# Altium integrated library Analog Devices Data Converters Analog-to-Digital Converters.IntLib: 2404 symbols (part 39 of 346)
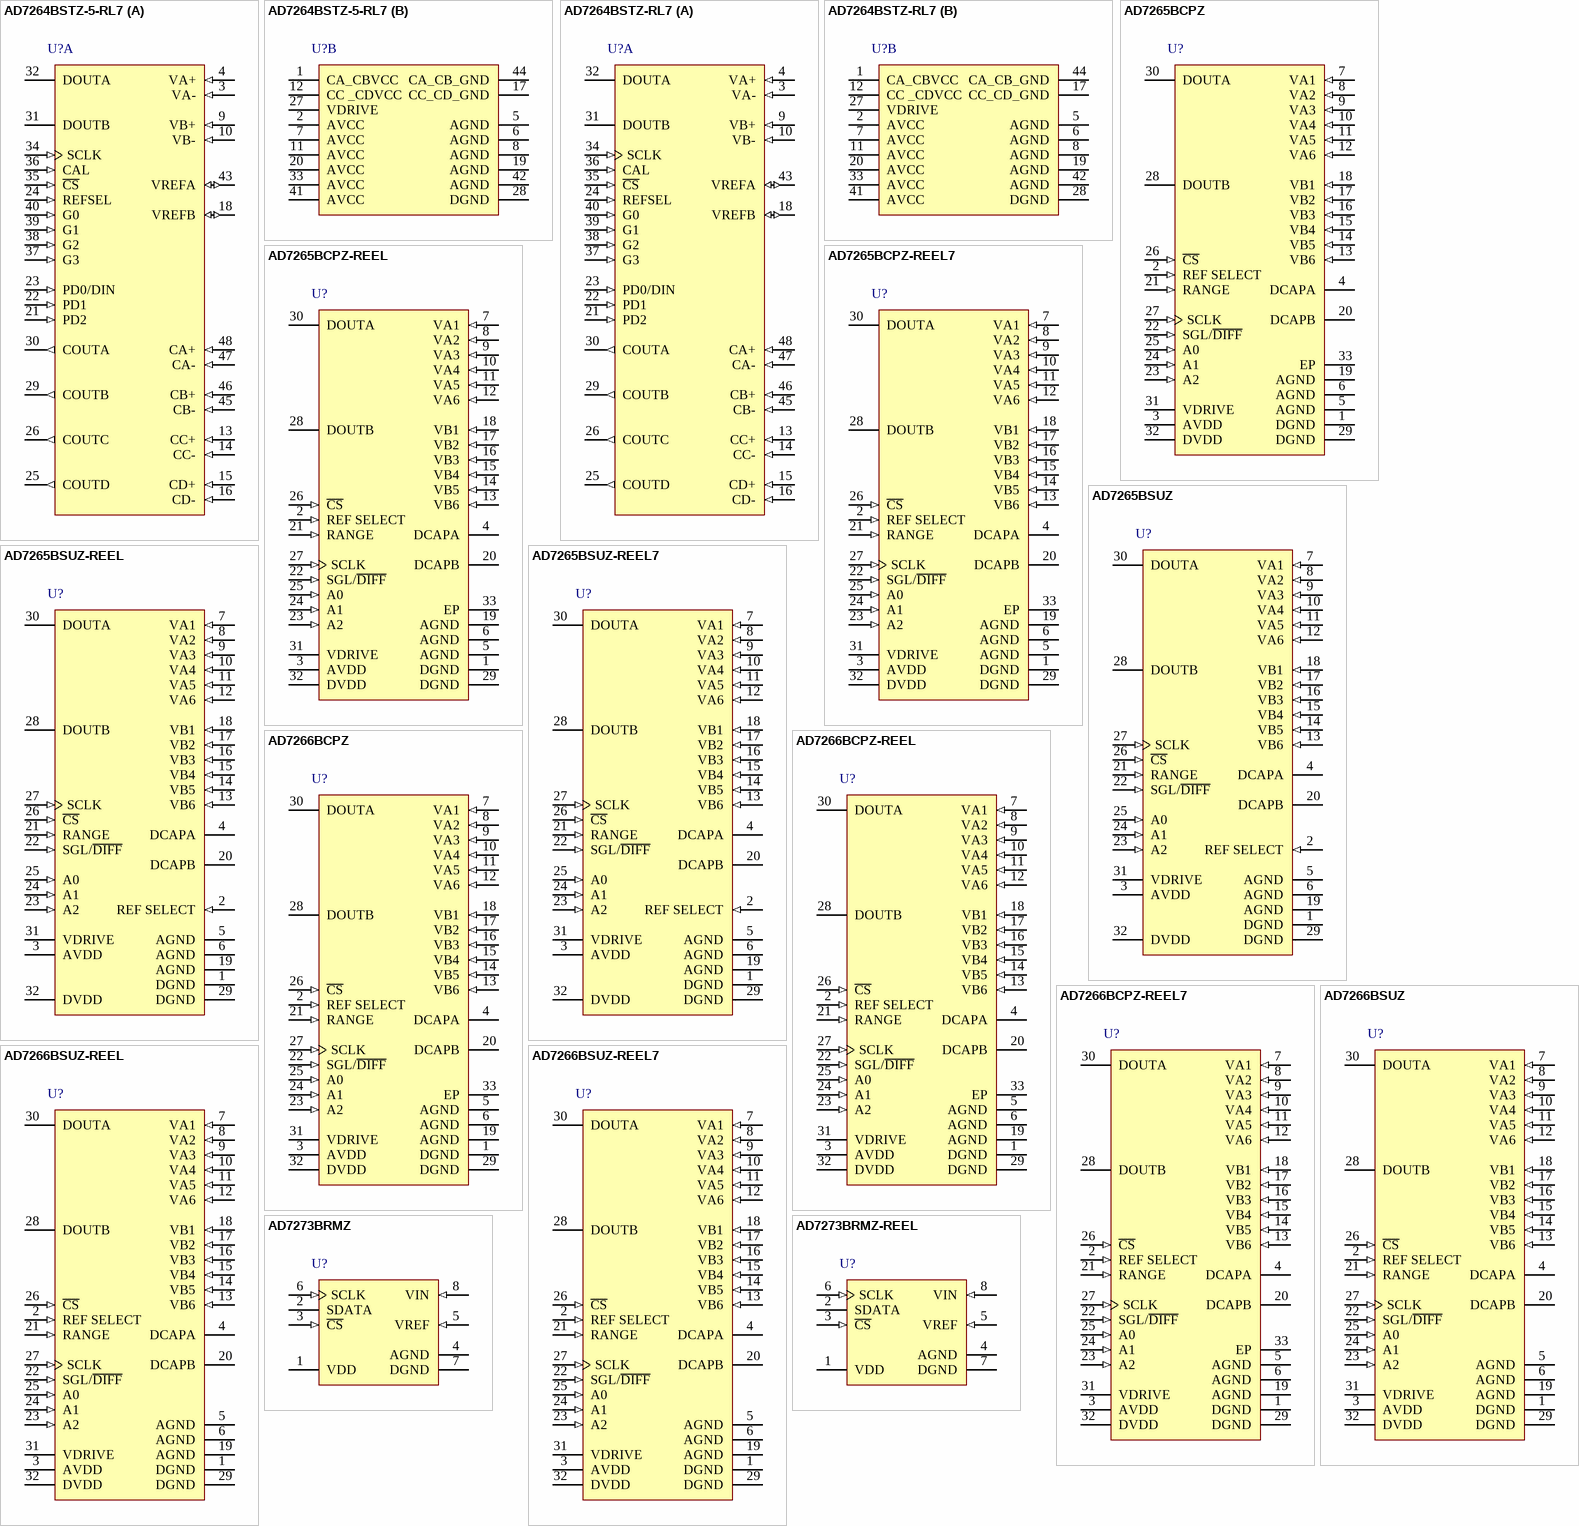
[diagram p177: symbols AD7264BSTZ-5-RL7 to AD7273BRMZ-REEL]

## AD7265BCPZ
designator U?
1Dual 12-Bit SAR Analog-to-Digital Converter with Serial, SPI Interface, 1MSPS, -40 to +125 degC, CP-32-2, Pb-Free, Tray; Generic Part Number: AD7265; Manufacturer: Analog Devices; PartNumber: AD7265BCPZ; Resolution (Bits): 12; Throughput Rate (SPS): 1M; Interface: Ser, SPI; DatasheetVersion: Rev.A; PackageVersion: Jan-2005; PackageReference: CP-32-2; PackageDescription: 32-Lead Lead Frame Chip Scale Package [LFCSP_VQ] 5 x 5 mm Body, Very Thin Quad; Supplier 1: Digi-Key; Supplier Part Number 1: AD7265BCPZ-ND; Supplier 2: Newark; Supplier Part Number 2: 59K4649; Supplier 3: Mouser; Supplier Part Number 3: 584-AD7265BCPZ; Channels: 12; RoHS: Y; Packing: Tray; Mounting Technology: Surface Mount; Code_JEDEC: MO-220-VHHD-2; ComponentLink1Description: Manufacturer URL; ComponentLink1URL: http://www.analog.com/en/index.html; ComponentLink2Description: Datasheet; ComponentLink2URL: http://www.analog.com/static/imported-files/data_sheets/AD7265.pdf; ComponentLink3Description: Package Specification; ComponentLink3URL: http://www.analog.com/static/imported-files/packages/414143737956480539664569CP_32_2.pdf; ComponentLink4Description: Product URL; ComponentLink4URL: http://www.analog.com/en/analog-to-digital-converters/ad-converters/ad7265/products/product.html
footprint CP-32-2_N (QFN, 32-Leads, Body 5x5mm, Pitch 0.5mm, Thermal Pad 3.1x3.1mm, IPC Medium Density)
footprint CP-32-2_L (QFN, 32-Leads, Body 5x5mm, Pitch 0.5mm, Thermal Pad 3.1x3.1mm, IPC High Density)
footprint CP-32-2_M (QFN, 32-Leads, Body 5x5mm, Pitch 0.5mm, Thermal Pad 3.1x3.1mm, IPC Low Density)
pins: 1 DGND (power) "Digital Ground. This is the ground reference point for all digital circuitry on the AD7265. Both DGND pins should connect to the DGND plane of a system. The DGND and AGND voltages should ideally be at the same potential and (See Datasheet)", 2 REF SELECT (in) "Internal/External Reference Selection. Logic input. If this pin is tied to DGND, the on-chip 2.5 V reference is used as the reference source for both ADC A and ADC B. In addition, Pin DCAPA and Pin DCAPB must be tied to (See Datasheet)", 3 AVDD (power) "Analog Supply Voltage, 2.7 V to 5.25 V. This is the only supply voltage for all analog circuitry on the AD7265. The AVDD and DVDD voltages should ideally be at the same potential and must not be more than 0.3 V apart, even (See Datasheet)", 4 DCAPA "Decoupling Capacitor Pins. Decoupling capacitors (470 nF recommended) are connected to these pins to decouple the reference buffer for each respective ADC. Provided the output is buffered, the on-chip reference can be taken (See Datasheet)", 5 AGND (power) "Analog Ground. Ground reference point for all analog circuitry on the AD7265. All analog input signals and any external reference signal should be referred to this AGND voltage. All three of these AGND pins should connect to (See Datasheet)", 6 AGND (power) "Analog Ground. Ground reference point for all analog circuitry on the AD7265. All analog input signals and any external reference signal should be referred to this AGND voltage. All three of these AGND pins should connect to (See Datasheet)", 7 VA1 (in) "Analog Inputs of ADC A. These may be programmed as six single-ended channels or three true differential analog input channel pairs. See Table 6.", 8 VA2 (in) "Analog Inputs of ADC A. These may be programmed as six single-ended channels or three true differential analog input channel pairs. See Table 6.Analog Inputs of ADC A. These may be programmed as six single-ended channels or (See Datasheet)", 9 VA3 (in) "Analog Inputs of ADC A. These may be programmed as six single-ended channels or three true differential analog input channel pairs. See Table 6.", 10 VA4 (in) "Analog Inputs of ADC A. These may be programmed as six single-ended channels or three true differential analog input channel pairs. See Table 6.", 11 VA5 (in) "Analog Inputs of ADC A. These may be programmed as six single-ended channels or three true differential analog input channel pairs. See Table 6.", 12 VA6 (in) "Analog Inputs of ADC A. These may be programmed as six single-ended channels or three true differential analog input channel pairs. See Table 6.", 13 VB6 (in) "Analog Inputs of ADC B. These may be programmed as six single-ended channels or three true differential analog input channel pairs. See Table 6.", 14 VB5 (in) "Analog Inputs of ADC B. These may be programmed as six single-ended channels or three true differential analog input channel pairs. See Table 6.", 15 VB4 (in) "Analog Inputs of ADC B. These may be programmed as six single-ended channels or three true differential analog input channel pairs. See Table 6.", 16 VB3 (in) "Analog Inputs of ADC B. These may be programmed as six single-ended channels or three true differential analog input channel pairs. See Table 6.", 17 VB2 (in) "Analog Inputs of ADC B. These may be programmed as six single-ended channels or three true differential analog input channel pairs. See Table 6.", 18 VB1 (in) "Analog Inputs of ADC B. These may be programmed as six single-ended channels or three true differential analog input channel pairs. See Table 6.", 19 AGND (power) "Analog Ground. Ground reference point for all analog circuitry on the AD7265. All analog input signals and any external reference signal should be referred to this AGND voltage. All three of these AGND pins should connect to (See Datasheet)", 20 DCAPB "Decoupling Capacitor Pins. Decoupling capacitors (470 nF recommended) are connected to these pins to decouple the reference buffer for each respective ADC. Provided the output is buffered, the on-chip reference can be taken (See Datasheet)", 21 RANGE (in) "Analog Input Range Selection. Logic input. The polarity on this pin determines the input range of the analog input channels. If this pin is tied to a logic low, the analog input range is 0 V to VREF. If this pin is tied to a (See Datasheet)", 22 SGL/~{DIFF} (in) "Logic Input. This pin selects whether the analog inputs are configured as differential pairs or single ended. A logic low selects differential operation while a logic high selects single-ended operation. See the Analog Input (See Datasheet)", 23 A2 (in) "Multiplexer Select. Logic inputs. These inputs are used to select the pair of channels to be simultaneously converted, such as Channel 1 of both ADC A and ADC B, Channel 2 of both ADC A and ADC B, and so on. The pair of (See Datasheet)", 24 A1 (in) "Multiplexer Select. Logic inputs. These inputs are used to select the pair of channels to be simultaneously converted, such as Channel 1 of both ADC A and ADC B, Channel 2 of both ADC A and ADC B, and so on. The pair of (See Datasheet)", 25 A0 (in) "Multiplexer Select. Logic inputs. These inputs are used to select the pair of channels to be simultaneously converted, such as Channel 1 of both ADC A and ADC B, Channel 2 of both ADC A and ADC B, and so on. The pair of (See Datasheet)", 26 ~{CS} (in) "Chip Select. Active low logic input. This input provides the dual function of initiating conversions on the AD7265 and framing the serial data transfer.", 27 SCLK (in) "Serial Clock. Logic input. A serial clock input provides the SCLK for accessing the data from the AD7265. This clock is also used as the clock source for the conversion process.", 28 DOUTB (hiz) "Serial Data Outputs. The data output is supplied to each pin as a serial data stream. The bits are clocked out on the falling edge of the SCLK input and 14 SCLKs are required to access the data. The data simultaneously (See Datasheet)", 29 DGND (power) "Digital Ground. This is the ground reference point for all digital circuitry on the AD7265. Both DGND pins should connect to the DGND plane of a system. The DGND and AGND voltages should ideally be at the same potential and (See Datasheet)", 30 DOUTA (hiz) "Serial Data Outputs. The data output is supplied to each pin as a serial data stream. The bits are clocked out on the falling edge of the SCLK input and 14 SCLKs are required to access the data. The data simultaneously (See Datasheet)", 31 VDRIVE (power) "Logic Power Supply Input. The voltage supplied at this pin determines at what voltage the interface operates. This pin should be decoupled to DGND. The voltage at this pin may be different than that at AVDD and DVDD but (See Datasheet)", 32 DVDD (power) "Digital Supply Voltage, 2.7 V to 5.25 V. This is the supply voltage for all digital circuitry on the AD7265. The DVDD and AVDD voltages should ideally be at the same potential and must not be more than 0.3 V apart even on a (See Datasheet)", 33 EP (power) "Exposed Pad. The exposed metal paddle on the bottom of the LFCSP package should be soldered to PCB ground."

## AD7265BCPZ-REEL
designator U?
1Dual 12-Bit SAR Analog-to-Digital Converter with Serial, SPI Interface, 1MSPS, -40 to +125 degC, CP-32-2, Pb-Free, Reel; Generic Part Number: AD7265; Manufacturer: Analog Devices; PartNumber: AD7265BCPZ-REEL; Resolution (Bits): 12; Throughput Rate (SPS): 1M; Interface: Ser, SPI; DatasheetVersion: Rev.A; PackageVersion: Jan-2005; PackageReference: CP-32-2; PackageDescription: 32-Lead Lead Frame Chip Scale Package [LFCSP_VQ] 5 x 5 mm Body, Very Thin Quad; Supplier 1: Digi-Key; Supplier Part Number 1: AD7265BCPZ-REEL-ND; Supplier 2: Mouser; Supplier Part Number 2: 584-AD7265BCPZ-R; Channels: 12; RoHS: Y; Packing: Reel; Mounting Technology: Surface Mount; Code_JEDEC: MO-220-VHHD-2; ComponentLink1Description: Manufacturer URL; ComponentLink1URL: http://www.analog.com/en/index.html; ComponentLink2Description: Datasheet; ComponentLink2URL: http://www.analog.com/static/imported-files/data_sheets/AD7265.pdf; ComponentLink3Description: Package Specification; ComponentLink3URL: http://www.analog.com/static/imported-files/packages/414143737956480539664569CP_32_2.pdf; ComponentLink4Description: Product URL; ComponentLink4URL: http://www.analog.com/en/analog-to-digital-converters/ad-converters/ad7265/products/product.html
footprint CP-32-2_N (QFN, 32-Leads, Body 5x5mm, Pitch 0.5mm, Thermal Pad 3.1x3.1mm, IPC Medium Density)
footprint CP-32-2_L (QFN, 32-Leads, Body 5x5mm, Pitch 0.5mm, Thermal Pad 3.1x3.1mm, IPC High Density)
footprint CP-32-2_M (QFN, 32-Leads, Body 5x5mm, Pitch 0.5mm, Thermal Pad 3.1x3.1mm, IPC Low Density)
pins: 1 DGND (power) "Digital Ground. This is the ground reference point for all digital circuitry on the AD7265. Both DGND pins should connect to the DGND plane of a system. The DGND and AGND voltages should ideally be at the same potential and (See Datasheet)", 2 REF SELECT (in) "Internal/External Reference Selection. Logic input. If this pin is tied to DGND, the on-chip 2.5 V reference is used as the reference source for both ADC A and ADC B. In addition, Pin DCAPA and Pin DCAPB must be tied to (See Datasheet)", 3 AVDD (power) "Analog Supply Voltage, 2.7 V to 5.25 V. This is the only supply voltage for all analog circuitry on the AD7265. The AVDD and DVDD voltages should ideally be at the same potential and must not be more than 0.3 V apart, even (See Datasheet)", 4 DCAPA "Decoupling Capacitor Pins. Decoupling capacitors (470 nF recommended) are connected to these pins to decouple the reference buffer for each respective ADC. Provided the output is buffered, the on-chip reference can be taken (See Datasheet)", 5 AGND (power) "Analog Ground. Ground reference point for all analog circuitry on the AD7265. All analog input signals and any external reference signal should be referred to this AGND voltage. All three of these AGND pins should connect to (See Datasheet)", 6 AGND (power) "Analog Ground. Ground reference point for all analog circuitry on the AD7265. All analog input signals and any external reference signal should be referred to this AGND voltage. All three of these AGND pins should connect to (See Datasheet)", 7 VA1 (in) "Analog Inputs of ADC A. These may be programmed as six single-ended channels or three true differential analog input channel pairs. See Table 6.", 8 VA2 (in) "Analog Inputs of ADC A. These may be programmed as six single-ended channels or three true differential analog input channel pairs. See Table 6.Analog Inputs of ADC A. These may be programmed as six single-ended channels or (See Datasheet)", 9 VA3 (in) "Analog Inputs of ADC A. These may be programmed as six single-ended channels or three true differential analog input channel pairs. See Table 6.", 10 VA4 (in) "Analog Inputs of ADC A. These may be programmed as six single-ended channels or three true differential analog input channel pairs. See Table 6.", 11 VA5 (in) "Analog Inputs of ADC A. These may be programmed as six single-ended channels or three true differential analog input channel pairs. See Table 6.", 12 VA6 (in) "Analog Inputs of ADC A. These may be programmed as six single-ended channels or three true differential analog input channel pairs. See Table 6.", 13 VB6 (in) "Analog Inputs of ADC B. These may be programmed as six single-ended channels or three true differential analog input channel pairs. See Table 6.", 14 VB5 (in) "Analog Inputs of ADC B. These may be programmed as six single-ended channels or three true differential analog input channel pairs. See Table 6.", 15 VB4 (in) "Analog Inputs of ADC B. These may be programmed as six single-ended channels or three true differential analog input channel pairs. See Table 6.", 16 VB3 (in) "Analog Inputs of ADC B. These may be programmed as six single-ended channels or three true differential analog input channel pairs. See Table 6.", 17 VB2 (in) "Analog Inputs of ADC B. These may be programmed as six single-ended channels or three true differential analog input channel pairs. See Table 6.", 18 VB1 (in) "Analog Inputs of ADC B. These may be programmed as six single-ended channels or three true differential analog input channel pairs. See Table 6.", 19 AGND (power) "Analog Ground. Ground reference point for all analog circuitry on the AD7265. All analog input signals and any external reference signal should be referred to this AGND voltage. All three of these AGND pins should connect to (See Datasheet)", 20 DCAPB "Decoupling Capacitor Pins. Decoupling capacitors (470 nF recommended) are connected to these pins to decouple the reference buffer for each respective ADC. Provided the output is buffered, the on-chip reference can be taken (See Datasheet)", 21 RANGE (in) "Analog Input Range Selection. Logic input. The polarity on this pin determines the input range of the analog input channels. If this pin is tied to a logic low, the analog input range is 0 V to VREF. If this pin is tied to a (See Datasheet)", 22 SGL/~{DIFF} (in) "Logic Input. This pin selects whether the analog inputs are configured as differential pairs or single ended. A logic low selects differential operation while a logic high selects single-ended operation. See the Analog Input (See Datasheet)", 23 A2 (in) "Multiplexer Select. Logic inputs. These inputs are used to select the pair of channels to be simultaneously converted, such as Channel 1 of both ADC A and ADC B, Channel 2 of both ADC A and ADC B, and so on. The pair of (See Datasheet)", 24 A1 (in) "Multiplexer Select. Logic inputs. These inputs are used to select the pair of channels to be simultaneously converted, such as Channel 1 of both ADC A and ADC B, Channel 2 of both ADC A and ADC B, and so on. The pair of (See Datasheet)", 25 A0 (in) "Multiplexer Select. Logic inputs. These inputs are used to select the pair of channels to be simultaneously converted, such as Channel 1 of both ADC A and ADC B, Channel 2 of both ADC A and ADC B, and so on. The pair of (See Datasheet)", 26 ~{CS} (in) "Chip Select. Active low logic input. This input provides the dual function of initiating conversions on the AD7265 and framing the serial data transfer.", 27 SCLK (in) "Serial Clock. Logic input. A serial clock input provides the SCLK for accessing the data from the AD7265. This clock is also used as the clock source for the conversion process.", 28 DOUTB (hiz) "Serial Data Outputs. The data output is supplied to each pin as a serial data stream. The bits are clocked out on the falling edge of the SCLK input and 14 SCLKs are required to access the data. The data simultaneously (See Datasheet)", 29 DGND (power) "Digital Ground. This is the ground reference point for all digital circuitry on the AD7265. Both DGND pins should connect to the DGND plane of a system. The DGND and AGND voltages should ideally be at the same potential and (See Datasheet)", 30 DOUTA (hiz) "Serial Data Outputs. The data output is supplied to each pin as a serial data stream. The bits are clocked out on the falling edge of the SCLK input and 14 SCLKs are required to access the data. The data simultaneously (See Datasheet)", 31 VDRIVE (power) "Logic Power Supply Input. The voltage supplied at this pin determines at what voltage the interface operates. This pin should be decoupled to DGND. The voltage at this pin may be different than that at AVDD and DVDD but (See Datasheet)", 32 DVDD (power) "Digital Supply Voltage, 2.7 V to 5.25 V. This is the supply voltage for all digital circuitry on the AD7265. The DVDD and AVDD voltages should ideally be at the same potential and must not be more than 0.3 V apart even on a (See Datasheet)", 33 EP (power) "Exposed Pad. The exposed metal paddle on the bottom of the LFCSP package should be soldered to PCB ground."

## AD7265BCPZ-REEL7
designator U?
1Dual 12-Bit SAR Analog-to-Digital Converter with Serial, SPI Interface, 1MSPS, -40 to +125 degC, CP-32-2, Pb-Free, Reel; Generic Part Number: AD7265; Manufacturer: Analog Devices; PartNumber: AD7265BCPZ-REEL7; Resolution (Bits): 12; Throughput Rate (SPS): 1M; Interface: Ser, SPI; DatasheetVersion: Rev.A; PackageVersion: Jan-2005; PackageReference: CP-32-2; PackageDescription: 32-Lead Lead Frame Chip Scale Package [LFCSP_VQ] 5 x 5 mm Body, Very Thin Quad; Supplier 1: Digi-Key; Supplier Part Number 1: AD7265BCPZ-REEL7-ND; Supplier 2: Mouser; Supplier Part Number 2: 584-AD7265BCPZ-R7; Channels: 12; RoHS: Y; Packing: Reel; Mounting Technology: Surface Mount; Code_JEDEC: MO-220-VHHD-2; ComponentLink1Description: Manufacturer URL; ComponentLink1URL: http://www.analog.com/en/index.html; ComponentLink2Description: Datasheet; ComponentLink2URL: http://www.analog.com/static/imported-files/data_sheets/AD7265.pdf; ComponentLink3Description: Package Specification; ComponentLink3URL: http://www.analog.com/static/imported-files/packages/414143737956480539664569CP_32_2.pdf; ComponentLink4Description: Product URL; ComponentLink4URL: http://www.analog.com/en/analog-to-digital-converters/ad-converters/ad7265/products/product.html
footprint CP-32-2_N (QFN, 32-Leads, Body 5x5mm, Pitch 0.5mm, Thermal Pad 3.1x3.1mm, IPC Medium Density)
footprint CP-32-2_L (QFN, 32-Leads, Body 5x5mm, Pitch 0.5mm, Thermal Pad 3.1x3.1mm, IPC High Density)
footprint CP-32-2_M (QFN, 32-Leads, Body 5x5mm, Pitch 0.5mm, Thermal Pad 3.1x3.1mm, IPC Low Density)
pins: 1 DGND (power) "Digital Ground. This is the ground reference point for all digital circuitry on the AD7265. Both DGND pins should connect to the DGND plane of a system. The DGND and AGND voltages should ideally be at the same potential and (See Datasheet)", 2 REF SELECT (in) "Internal/External Reference Selection. Logic input. If this pin is tied to DGND, the on-chip 2.5 V reference is used as the reference source for both ADC A and ADC B. In addition, Pin DCAPA and Pin DCAPB must be tied to (See Datasheet)", 3 AVDD (power) "Analog Supply Voltage, 2.7 V to 5.25 V. This is the only supply voltage for all analog circuitry on the AD7265. The AVDD and DVDD voltages should ideally be at the same potential and must not be more than 0.3 V apart, even (See Datasheet)", 4 DCAPA "Decoupling Capacitor Pins. Decoupling capacitors (470 nF recommended) are connected to these pins to decouple the reference buffer for each respective ADC. Provided the output is buffered, the on-chip reference can be taken (See Datasheet)", 5 AGND (power) "Analog Ground. Ground reference point for all analog circuitry on the AD7265. All analog input signals and any external reference signal should be referred to this AGND voltage. All three of these AGND pins should connect to (See Datasheet)", 6 AGND (power) "Analog Ground. Ground reference point for all analog circuitry on the AD7265. All analog input signals and any external reference signal should be referred to this AGND voltage. All three of these AGND pins should connect to (See Datasheet)", 7 VA1 (in) "Analog Inputs of ADC A. These may be programmed as six single-ended channels or three true differential analog input channel pairs. See Table 6.", 8 VA2 (in) "Analog Inputs of ADC A. These may be programmed as six single-ended channels or three true differential analog input channel pairs. See Table 6.Analog Inputs of ADC A. These may be programmed as six single-ended channels or (See Datasheet)", 9 VA3 (in) "Analog Inputs of ADC A. These may be programmed as six single-ended channels or three true differential analog input channel pairs. See Table 6.", 10 VA4 (in) "Analog Inputs of ADC A. These may be programmed as six single-ended channels or three true differential analog input channel pairs. See Table 6.", 11 VA5 (in) "Analog Inputs of ADC A. These may be programmed as six single-ended channels or three true differential analog input channel pairs. See Table 6.", 12 VA6 (in) "Analog Inputs of ADC A. These may be programmed as six single-ended channels or three true differential analog input channel pairs. See Table 6.", 13 VB6 (in) "Analog Inputs of ADC B. These may be programmed as six single-ended channels or three true differential analog input channel pairs. See Table 6.", 14 VB5 (in) "Analog Inputs of ADC B. These may be programmed as six single-ended channels or three true differential analog input channel pairs. See Table 6.", 15 VB4 (in) "Analog Inputs of ADC B. These may be programmed as six single-ended channels or three true differential analog input channel pairs. See Table 6.", 16 VB3 (in) "Analog Inputs of ADC B. These may be programmed as six single-ended channels or three true differential analog input channel pairs. See Table 6.", 17 VB2 (in) "Analog Inputs of ADC B. These may be programmed as six single-ended channels or three true differential analog input channel pairs. See Table 6.", 18 VB1 (in) "Analog Inputs of ADC B. These may be programmed as six single-ended channels or three true differential analog input channel pairs. See Table 6.", 19 AGND (power) "Analog Ground. Ground reference point for all analog circuitry on the AD7265. All analog input signals and any external reference signal should be referred to this AGND voltage. All three of these AGND pins should connect to (See Datasheet)", 20 DCAPB "Decoupling Capacitor Pins. Decoupling capacitors (470 nF recommended) are connected to these pins to decouple the reference buffer for each respective ADC. Provided the output is buffered, the on-chip reference can be taken (See Datasheet)", 21 RANGE (in) "Analog Input Range Selection. Logic input. The polarity on this pin determines the input range of the analog input channels. If this pin is tied to a logic low, the analog input range is 0 V to VREF. If this pin is tied to a (See Datasheet)", 22 SGL/~{DIFF} (in) "Logic Input. This pin selects whether the analog inputs are configured as differential pairs or single ended. A logic low selects differential operation while a logic high selects single-ended operation. See the Analog Input (See Datasheet)", 23 A2 (in) "Multiplexer Select. Logic inputs. These inputs are used to select the pair of channels to be simultaneously converted, such as Channel 1 of both ADC A and ADC B, Channel 2 of both ADC A and ADC B, and so on. The pair of (See Datasheet)", 24 A1 (in) "Multiplexer Select. Logic inputs. These inputs are used to select the pair of channels to be simultaneously converted, such as Channel 1 of both ADC A and ADC B, Channel 2 of both ADC A and ADC B, and so on. The pair of (See Datasheet)", 25 A0 (in) "Multiplexer Select. Logic inputs. These inputs are used to select the pair of channels to be simultaneously converted, such as Channel 1 of both ADC A and ADC B, Channel 2 of both ADC A and ADC B, and so on. The pair of (See Datasheet)", 26 ~{CS} (in) "Chip Select. Active low logic input. This input provides the dual function of initiating conversions on the AD7265 and framing the serial data transfer.", 27 SCLK (in) "Serial Clock. Logic input. A serial clock input provides the SCLK for accessing the data from the AD7265. This clock is also used as the clock source for the conversion process.", 28 DOUTB (hiz) "Serial Data Outputs. The data output is supplied to each pin as a serial data stream. The bits are clocked out on the falling edge of the SCLK input and 14 SCLKs are required to access the data. The data simultaneously (See Datasheet)", 29 DGND (power) "Digital Ground. This is the ground reference point for all digital circuitry on the AD7265. Both DGND pins should connect to the DGND plane of a system. The DGND and AGND voltages should ideally be at the same potential and (See Datasheet)", 30 DOUTA (hiz) "Serial Data Outputs. The data output is supplied to each pin as a serial data stream. The bits are clocked out on the falling edge of the SCLK input and 14 SCLKs are required to access the data. The data simultaneously (See Datasheet)", 31 VDRIVE (power) "Logic Power Supply Input. The voltage supplied at this pin determines at what voltage the interface operates. This pin should be decoupled to DGND. The voltage at this pin may be different than that at AVDD and DVDD but (See Datasheet)", 32 DVDD (power) "Digital Supply Voltage, 2.7 V to 5.25 V. This is the supply voltage for all digital circuitry on the AD7265. The DVDD and AVDD voltages should ideally be at the same potential and must not be more than 0.3 V apart even on a (See Datasheet)", 33 EP (power) "Exposed Pad. The exposed metal paddle on the bottom of the LFCSP package should be soldered to PCB ground."

## AD7265BSUZ
designator U?
1Dual 12-Bit SAR Analog-to-Digital Converter with Serial, SPI Interface, 1MSPS, -40 to +125 degC, SU-32-2, Pb-Free, Tray; Generic Part Number: AD7265; Manufacturer: Analog Devices; PartNumber: AD7265BSUZ; Resolution (Bits): 12; Throughput Rate (SPS): 1M; Interface: Ser, SPI; DatasheetVersion: Rev.A; PackageVersion: 2004; PackageReference: SU-32-2; PackageDescription: 32-Lead Thin Plastic Quad Flat Package [TQFP]; Supplier 1: Digi-Key; Supplier Part Number 1: AD7265BSUZ-ND; Supplier 2: Newark; Supplier Part Number 2: 59K4652; Supplier 3: Mouser; Supplier Part Number 3: 584-AD7265BSUZ; Channels: 12; RoHS: Y; Packing: Tray; Mounting Technology: Surface Mount; Code_JEDEC: MS-026-ABA; ComponentLink1Description: Manufacturer URL; ComponentLink1URL: http://www.analog.com/en/index.html; ComponentLink2Description: Datasheet; ComponentLink2URL: http://www.analog.com/static/imported-files/data_sheets/AD7265.pdf; ComponentLink3Description: Package Specification; ComponentLink3URL: http://www.analog.com/static/imported-files/packages/6298531260360306615SU_32_2.pdf; ComponentLink4Description: Product URL; ComponentLink4URL: http://www.analog.com/en/analog-to-digital-converters/ad-converters/ad7265/products/product.html
footprint SU-32-2_N (Thin QFP, 32-Leads, Body 7x7mm, Pitch 0.8mm, IPC Medium Density)
footprint SU-32-2_L (Thin QFP, 32-Leads, Body 7x7mm, Pitch 0.8mm, IPC High Density)
footprint SU-32-2_M (Thin QFP, 32-Leads, Body 7x7mm, Pitch 0.8mm, IPC Low Density)
pins: 1 DGND (power) "Digital Ground. This is the ground reference point for all digital circuitry on the AD7265. Both DGND pins should connect to the DGND plane of a system. The DGND and AGND voltages should ideally be at the same potential and (See Datasheet)", 2 REF SELECT (in) "Internal/External Reference Selection. Logic input. If this pin is tied to DGND, the on-chip 2.5 V reference is used as the reference source for both ADC A and ADC B. In addition, Pin DCAPA and Pin DCAPB must be tied to (See Datasheet)", 3 AVDD (power) "Analog Supply Voltage, 2.7 V to 5.25 V. This is the only supply voltage for all analog circuitry on the AD7265. The AVDD and DVDD voltages should ideally be at the same potential and must not be more than 0.3 V apart, even (See Datasheet)", 4 DCAPA "Decoupling Capacitor Pins. Decoupling capacitors (470 nF recommended) are connected to these pins to decouple the reference buffer for each respective ADC. Provided the output is buffered, the on-chip reference can be taken (See Datasheet)", 5 AGND (power) "Analog Ground. Ground reference point for all analog circuitry on the AD7265. All analog input signals and any external reference signal should be referred to this AGND voltage. All three of these AGND pins should connect to (See Datasheet)", 6 AGND (power) "Analog Ground. Ground reference point for all analog circuitry on the AD7265. All analog input signals and any external reference signal should be referred to this AGND voltage. All three of these AGND pins should connect to (See Datasheet)", 7 VA1 (in) "Analog Inputs of ADC A. These may be programmed as six single-ended channels or three true differential analog input channel pairs. See Table 6.", 8 VA2 (in) "Analog Inputs of ADC A. These may be programmed as six single-ended channels or three true differential analog input channel pairs. See Table 6.", 9 VA3 (in) "Analog Inputs of ADC A. These may be programmed as six single-ended channels or three true differential analog input channel pairs. See Table 6.", 10 VA4 (in) "Analog Inputs of ADC A. These may be programmed as six single-ended channels or three true differential analog input channel pairs. See Table 6.", 11 VA5 (in) "Analog Inputs of ADC A. These may be programmed as six single-ended channels or three true differential analog input channel pairs. See Table 6.", 12 VA6 (in) "Analog Inputs of ADC A. These may be programmed as six single-ended channels or three true differential analog input channel pairs. See Table 6.", 13 VB6 (in) "Analog Inputs of ADC B. These may be programmed as six single-ended channels or three true differential analog input channel pairs. See Table 6.", 14 VB5 (in) "Analog Inputs of ADC B. These may be programmed as six single-ended channels or three true differential analog input channel pairs. See Table 6.", 15 VB4 (in) "Analog Inputs of ADC B. These may be programmed as six single-ended channels or three true differential analog input channel pairs. See Table 6.", 16 VB3 (in) "Analog Inputs of ADC B. These may be programmed as six single-ended channels or three true differential analog input channel pairs. See Table 6.", 17 VB2 (in) "Analog Inputs of ADC B. These may be programmed as six single-ended channels or three true differential analog input channel pairs. See Table 6.", 18 VB1 (in) "Analog Inputs of ADC B. These may be programmed as six single-ended channels or three true differential analog input channel pairs. See Table 6.", 19 AGND (power) "Analog Ground. Ground reference point for all analog circuitry on the AD7265. All analog input signals and any external reference signal should be referred to this AGND voltage. All three of these AGND pins should connect to (See Datasheet)", 20 DCAPB "Decoupling Capacitor Pins. Decoupling capacitors (470 nF recommended) are connected to these pins to decouple the reference buffer for each respective ADC. Provided the output is buffered, the on-chip reference can be taken (See Datasheet)", 21 RANGE (in) "Analog Input Range Selection. Logic input. The polarity on this pin determines the input range of the analog input channels. If this pin is tied to a logic low, the analog input range is 0 V to VREF. If this pin is tied to a (See Datasheet)", 22 SGL/~{DIFF} (in) "Logic Input. This pin selects whether the analog inputs are configured as differential pairs or single ended. A logic low selects differential operation while a logic high selects single-ended operation. See the Analog Input (See Datasheet)", 23 A2 (in) "Multiplexer Select. Logic inputs. These inputs are used to select the pair of channels to be simultaneously converted, such as Channel 1 of both ADC A and ADC B, Channel 2 of both ADC A and ADC B, and so on. The pair of (See Datasheet)", 24 A1 (in) "Multiplexer Select. Logic inputs. These inputs are used to select the pair of channels to be simultaneously converted, such as Channel 1 of both ADC A and ADC B, Channel 2 of both ADC A and ADC B, and so on. The pair of (See Datasheet)", 25 A0 (in) "Multiplexer Select. Logic inputs. These inputs are used to select the pair of channels to be simultaneously converted, such as Channel 1 of both ADC A and ADC B, Channel 2 of both ADC A and ADC B, and so on. The pair of (See Datasheet)", 26 ~{CS} (in) "Chip Select. Active low logic input. This input provides the dual function of initiating conversions on the AD7265 and framing the serial data transfer.", 27 SCLK (in) "Serial Clock. Logic input. A serial clock input provides the SCLK for accessing the data from the AD7265. This clock is also used as the clock source for the conversion process.", 28 DOUTB (hiz) "Serial Data Outputs. The data output is supplied to each pin as a serial data stream. The bits are clocked out on the falling edge of the SCLK input and 14 SCLKs are required to access the data. The data simultaneously (See Datasheet)", 29 DGND (power) "Digital Ground. This is the ground reference point for all digital circuitry on the AD7265. Both DGND pins should connect to the DGND plane of a system. The DGND and AGND voltages should ideally be at the same potential and (See Datasheet)", 30 DOUTA (hiz) "Serial Data Outputs. The data output is supplied to each pin as a serial data stream. The bits are clocked out on the falling edge of the SCLK input and 14 SCLKs are required to access the data. The data simultaneously (See Datasheet)", 31 VDRIVE (power) "Logic Power Supply Input. The voltage supplied at this pin determines at what voltage the interface operates. This pin should be decoupled to DGND. The voltage at this pin may be different than that at AVDD and DVDD but (See Datasheet)", 32 DVDD (power) "Digital Supply Voltage, 2.7 V to 5.25 V. This is the supply voltage for all digital circuitry on the AD7265. The DVDDand AVDD voltages should ideally be at the same potential and must not be more than 0.3 V apart even on a (See Datasheet)"

## AD7265BSUZ-REEL
designator U?
1Dual 12-Bit SAR Analog-to-Digital Converter with Serial, SPI Interface, 1MSPS, -40 to +125 degC, SU-32-2, Pb-Free, Reel; Generic Part Number: AD7265; Manufacturer: Analog Devices; PartNumber: AD7265BSUZ-REEL; Resolution (Bits): 12; Throughput Rate (SPS): 1M; Interface: Ser, SPI; DatasheetVersion: Rev.A; PackageVersion: 2004; PackageReference: SU-32-2; PackageDescription: 32-Lead Thin Plastic Quad Flat Package [TQFP]; Supplier 1: Digi-Key; Supplier Part Number 1: AD7265BSUZ-REEL-ND; Supplier 2: Mouser; Supplier Part Number 2: 584-AD7265BSUZ-R; Channels: 12; RoHS: Y; Packing: Reel; Mounting Technology: Surface Mount; Code_JEDEC: MS-026-ABA; ComponentLink1Description: Manufacturer URL; ComponentLink1URL: http://www.analog.com/en/index.html; ComponentLink2Description: Datasheet; ComponentLink2URL: http://www.analog.com/static/imported-files/data_sheets/AD7265.pdf; ComponentLink3Description: Package Specification; ComponentLink3URL: http://www.analog.com/static/imported-files/packages/6298531260360306615SU_32_2.pdf; ComponentLink4Description: Product URL; ComponentLink4URL: http://www.analog.com/en/analog-to-digital-converters/ad-converters/ad7265/products/product.html
footprint SU-32-2_N (Thin QFP, 32-Leads, Body 7x7mm, Pitch 0.8mm, IPC Medium Density)
footprint SU-32-2_L (Thin QFP, 32-Leads, Body 7x7mm, Pitch 0.8mm, IPC High Density)
footprint SU-32-2_M (Thin QFP, 32-Leads, Body 7x7mm, Pitch 0.8mm, IPC Low Density)
pins: 1 DGND (power) "Digital Ground. This is the ground reference point for all digital circuitry on the AD7265. Both DGND pins should connect to the DGND plane of a system. The DGND and AGND voltages should ideally be at the same potential and (See Datasheet)", 2 REF SELECT (in) "Internal/External Reference Selection. Logic input. If this pin is tied to DGND, the on-chip 2.5 V reference is used as the reference source for both ADC A and ADC B. In addition, Pin DCAPA and Pin DCAPB must be tied to (See Datasheet)", 3 AVDD (power) "Analog Supply Voltage, 2.7 V to 5.25 V. This is the only supply voltage for all analog circuitry on the AD7265. The AVDD and DVDD voltages should ideally be at the same potential and must not be more than 0.3 V apart, even (See Datasheet)", 4 DCAPA "Decoupling Capacitor Pins. Decoupling capacitors (470 nF recommended) are connected to these pins to decouple the reference buffer for each respective ADC. Provided the output is buffered, the on-chip reference can be taken (See Datasheet)", 5 AGND (power) "Analog Ground. Ground reference point for all analog circuitry on the AD7265. All analog input signals and any external reference signal should be referred to this AGND voltage. All three of these AGND pins should connect to (See Datasheet)", 6 AGND (power) "Analog Ground. Ground reference point for all analog circuitry on the AD7265. All analog input signals and any external reference signal should be referred to this AGND voltage. All three of these AGND pins should connect to (See Datasheet)", 7 VA1 (in) "Analog Inputs of ADC A. These may be programmed as six single-ended channels or three true differential analog input channel pairs. See Table 6.", 8 VA2 (in) "Analog Inputs of ADC A. These may be programmed as six single-ended channels or three true differential analog input channel pairs. See Table 6.", 9 VA3 (in) "Analog Inputs of ADC A. These may be programmed as six single-ended channels or three true differential analog input channel pairs. See Table 6.", 10 VA4 (in) "Analog Inputs of ADC A. These may be programmed as six single-ended channels or three true differential analog input channel pairs. See Table 6.", 11 VA5 (in) "Analog Inputs of ADC A. These may be programmed as six single-ended channels or three true differential analog input channel pairs. See Table 6.", 12 VA6 (in) "Analog Inputs of ADC A. These may be programmed as six single-ended channels or three true differential analog input channel pairs. See Table 6.", 13 VB6 (in) "Analog Inputs of ADC B. These may be programmed as six single-ended channels or three true differential analog input channel pairs. See Table 6.", 14 VB5 (in) "Analog Inputs of ADC B. These may be programmed as six single-ended channels or three true differential analog input channel pairs. See Table 6.", 15 VB4 (in) "Analog Inputs of ADC B. These may be programmed as six single-ended channels or three true differential analog input channel pairs. See Table 6.", 16 VB3 (in) "Analog Inputs of ADC B. These may be programmed as six single-ended channels or three true differential analog input channel pairs. See Table 6.", 17 VB2 (in) "Analog Inputs of ADC B. These may be programmed as six single-ended channels or three true differential analog input channel pairs. See Table 6.", 18 VB1 (in) "Analog Inputs of ADC B. These may be programmed as six single-ended channels or three true differential analog input channel pairs. See Table 6.", 19 AGND (power) "Analog Ground. Ground reference point for all analog circuitry on the AD7265. All analog input signals and any external reference signal should be referred to this AGND voltage. All three of these AGND pins should connect to (See Datasheet)", 20 DCAPB "Decoupling Capacitor Pins. Decoupling capacitors (470 nF recommended) are connected to these pins to decouple the reference buffer for each respective ADC. Provided the output is buffered, the on-chip reference can be taken (See Datasheet)", 21 RANGE (in) "Analog Input Range Selection. Logic input. The polarity on this pin determines the input range of the analog input channels. If this pin is tied to a logic low, the analog input range is 0 V to VREF. If this pin is tied to a (See Datasheet)", 22 SGL/~{DIFF} (in) "Logic Input. This pin selects whether the analog inputs are configured as differential pairs or single ended. A logic low selects differential operation while a logic high selects single-ended operation. See the Analog Input (See Datasheet)", 23 A2 (in) "Multiplexer Select. Logic inputs. These inputs are used to select the pair of channels to be simultaneously converted, such as Channel 1 of both ADC A and ADC B, Channel 2 of both ADC A and ADC B, and so on. The pair of (See Datasheet)", 24 A1 (in) "Multiplexer Select. Logic inputs. These inputs are used to select the pair of channels to be simultaneously converted, such as Channel 1 of both ADC A and ADC B, Channel 2 of both ADC A and ADC B, and so on. The pair of (See Datasheet)", 25 A0 (in) "Multiplexer Select. Logic inputs. These inputs are used to select the pair of channels to be simultaneously converted, such as Channel 1 of both ADC A and ADC B, Channel 2 of both ADC A and ADC B, and so on. The pair of (See Datasheet)", 26 ~{CS} (in) "Chip Select. Active low logic input. This input provides the dual function of initiating conversions on the AD7265 and framing the serial data transfer.", 27 SCLK (in) "Serial Clock. Logic input. A serial clock input provides the SCLK for accessing the data from the AD7265. This clock is also used as the clock source for the conversion process.", 28 DOUTB (hiz) "Serial Data Outputs. The data output is supplied to each pin as a serial data stream. The bits are clocked out on the falling edge of the SCLK input and 14 SCLKs are required to access the data. The data simultaneously (See Datasheet)", 29 DGND (power) "Digital Ground. This is the ground reference point for all digital circuitry on the AD7265. Both DGND pins should connect to the DGND plane of a system. The DGND and AGND voltages should ideally be at the same potential and (See Datasheet)", 30 DOUTA (hiz) "Serial Data Outputs. The data output is supplied to each pin as a serial data stream. The bits are clocked out on the falling edge of the SCLK input and 14 SCLKs are required to access the data. The data simultaneously (See Datasheet)", 31 VDRIVE (power) "Logic Power Supply Input. The voltage supplied at this pin determines at what voltage the interface operates. This pin should be decoupled to DGND. The voltage at this pin may be different than that at AVDD and DVDD but (See Datasheet)", 32 DVDD (power) "Digital Supply Voltage, 2.7 V to 5.25 V. This is the supply voltage for all digital circuitry on the AD7265. The DVDDand AVDD voltages should ideally be at the same potential and must not be more than 0.3 V apart even on a (See Datasheet)"